# Altium footprint library XTAL-2.5x2.0mm.PcbLib: 1 footprints
Each footprint in its own frame and in the unit in brackets; x right, y up, seen from the top. Pads: shape width x height; smd on the part's side, far side on the other; paste and mask are expansions set on the pad; w line width, h text height; cw(c..) or ccw(c..) is an arc to the next point about the centre after c.
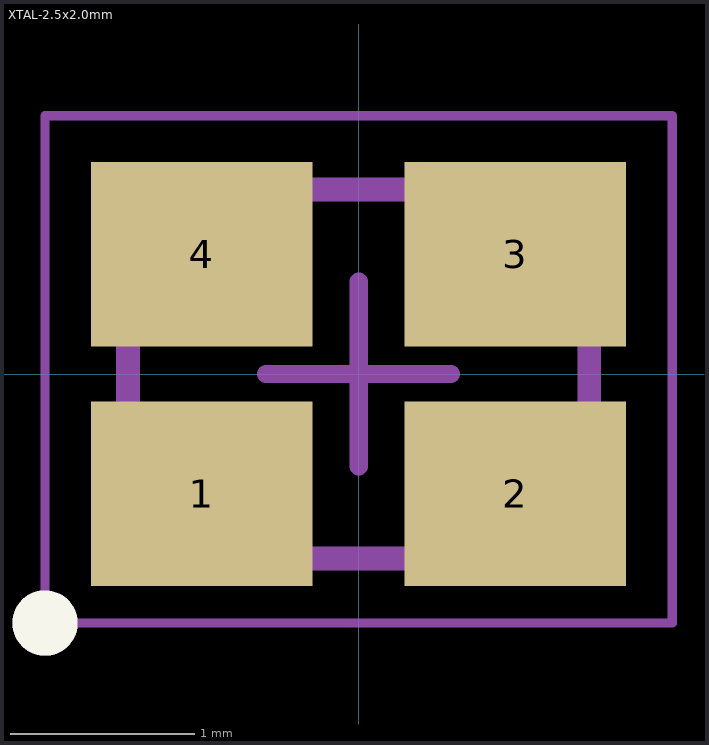
[diagram p0: the footprint, top view; thin cyan lines are the x and y axes]

## XTAL-2.5x2.0mm [mm]
height 0.6
pads (4):
  rect 1.2x1 smd: 1(-0.85,-0.65) 2(0.85,-0.65) 3(0.85,0.65) 4(-0.85,0.65)
Top Overlay:
  circle w0.254: c-1.7,-1.35 r0.05
Mechanical 13:
  lines w0.128: -1.25,-1 1.25,-1 1.25,1 -1.25,1 -1.25,-1
Mechanical 15:
  lines w0.05: -1.7,-1.35 -1.7,1.4 1.7,1.4 1.7,-1.35 -1.7,-1.35
  lines w0.1: -0.5,0 0.5,0 ; 0,-0.5 0,0.5
Mechanical 29:
  circle w0.254: c-1.7,-1.35 r0.05
  lines w0.05: -1.7,-1.35 1.7,-1.35 1.7,1.4 -1.7,1.4 -1.7,-1.35
  text ".Designator" at -1.3,-0.15 h0.6
3D body: height 0.6, standoff 0, extent -1.25,-1 1.25,1